# EAGLE library part ISO1176TDWR (library ISO1176TDWR)
Check prices <https://pricing.snapeda.com/parts/ISO1176TDWR/Texas%20Instruments/view-part?ref=eda>
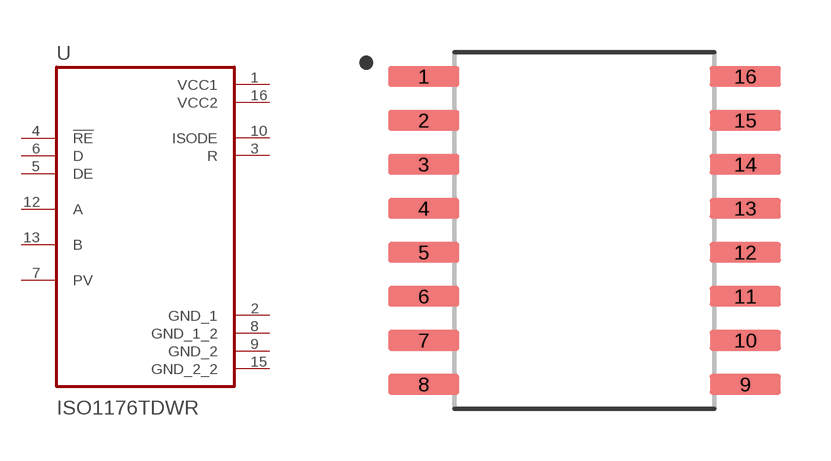
[diagram p0: symbol with the pads of SOIC127P1030X265-16N; footprint SOIC127P1030X265-16N]

Designator prefix U

## ISO1176TDWR (Availability: Warning; Description: 40-Mbps, half-duplex, isolated RS-485 & RS-422 transceiver with integrated transformer driver 16-SOIC -40 to 85; MF: Texas Instruments; MP: ISO1176TDWR; Package: SOIC-16 Texas Instruments; Price: None; Purchase-URL: https://pricing.snapeda.com/search/part/ISO1176TDWR/?ref=eda)  [SOIC127P1030X265-16N]
1  VCC1  pwr
2  GND_1  pwr
3  R  out
4  !RE  in
5  DE  in
6  D  in
7  PV
8  GND_1_2  pwr
9  GND_2  pwr
10  ISODE  out
12  A
13  B
15  GND_2_2  pwr
16  VCC2  pwr

## Footprint SOIC127P1030X265-16N (pad centres in mm)
smd 2.06 x 0.6: 1 -4.64,4.445; 2 -4.64,3.175; 3 -4.64,1.905; 4 -4.64,0.635; 5 -4.64,-0.635; 6 -4.64,-1.905; 7 -4.64,-3.175; 8 -4.64,-4.445; 9 4.64,-4.445; 10 4.64,-3.175; 11 4.64,-1.905; 12 4.64,-0.635; 13 4.64,0.635; 14 4.64,1.905; 15 4.64,3.175; 16 4.64,4.445